# Altium schematic symbol library DIODE TVS 3.3VR 3.5VBR.SchLib: 1 symbol
Pins are listed as number, name and electrical type; pins without a type are passive.

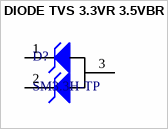
[diagram p0: symbol DIODE TVS 3.3VR 3.5VBR]

## DIODE TVS 3.3VR 3.5VBR
designator D?, comment SM3.3H-TP
3.3V Reverese Standoff, 3.5V Breakdown, 12.5V Clamp 40A (8/20µs) Ipp Tvs Diode SMD SOT-23; ComponentLink1Description: Octopart Link; ComponentLink1URL: https://octopart.com/search?q=SM3.3H-TP&currency=USD&specs=0
footprint SOT-23A-3
pins: 1, 2, 3